# Altium footprint library TSSOP-24.PcbLib: 1 footprints
Each footprint in its own frame and in the unit in brackets; x right, y up, seen from the top. Pads: shape width x height; smd on the part's side, far side on the other; paste and mask are expansions set on the pad; w line width, h text height; cw(c..) or ccw(c..) is an arc to the next point about the centre after c.
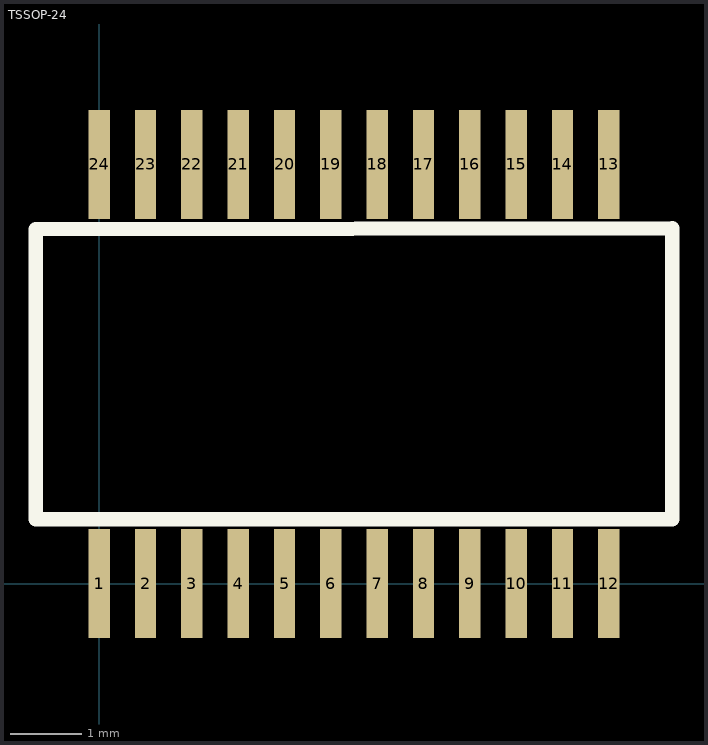
[diagram p0: the footprint, top view; thin cyan lines are the x and y axes]

## TSSOP-24 [mm]
height 0.127
pads (24):
  rect 0.3x1.524 smd: 1(0,0) 2(0.65,0) 3(1.3,0) 4(1.95,0) 5(2.6,0) 6(3.25,0) 7(3.9,0) 8(4.55,0) 9(5.2,0) 10(5.85,0) 11(6.5,0) 12(7.15,0) 13(7.15,5.88) 14(6.5,5.88) 15(5.85,5.88) 16(5.2,5.88) 17(4.55,5.88) 18(3.9,5.88) 19(3.25,5.88) 20(2.6,5.88) 21(1.95,5.88) 22(1.3,5.88) 23(0.65,5.88) 24(0,5.88)
TopOverlay:
  lines w0.203: 8.039,4.984 8.039,0.902 -0.889,0.902 -0.889,4.973 8.039,4.986
  text "." at 0.113,1.318 h1.52
3D body: height 1.2, standoff 0, extent -0.379,-0.324 7.521,6.226